# Altium footprint library CON2_100mil_lock.PcbLib: 1 footprints
Each footprint in its own frame and in the unit in brackets; x right, y up, seen from the top. Pads: shape width x height; smd on the part's side, far side on the other; paste and mask are expansions set on the pad; w line width, h text height; cw(c..) or ccw(c..) is an arc to the next point about the centre after c.
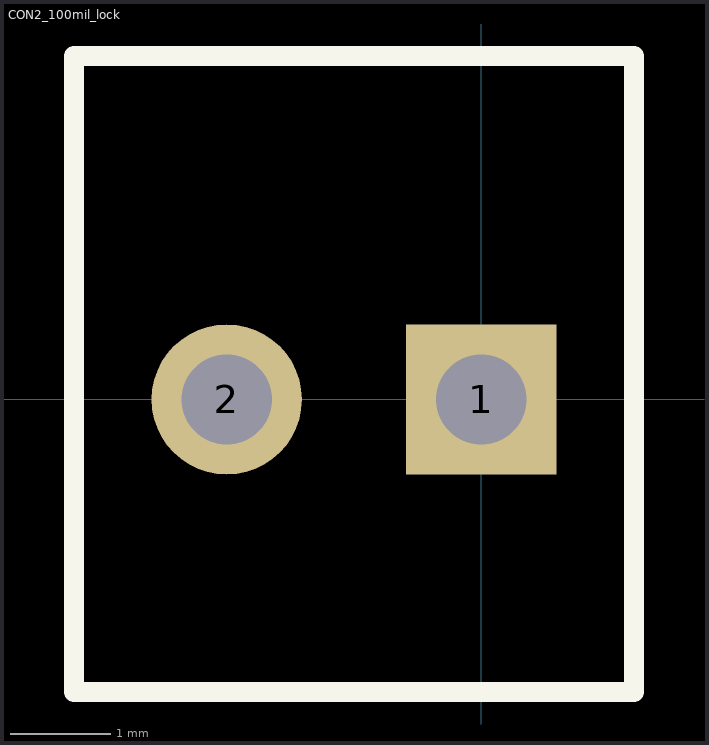
[diagram p0: the footprint, top view; thin cyan lines are the x and y axes]

## CON2_100mil_lock [mm]
height 7.112
pads (2):
  rect 1.5x1.5 hole 0.9: 1(0,0)
  round 1.5 hole 0.9: 2(-2.54,0)
Top Overlay:
  lines w0.2: -4.064,-2.921 1.524,-2.921 1.524,3.429 -4.064,3.429 -4.064,-2.921
3D body "c-640456-2-aa-3d.stp": height 10.03, standoff -3.56, extent -3.81,-2.667 1.27,3.175